# Altium integrated library CRS2512-FX-1004ELF.IntLib: 1 symbol
Pins are listed as number, name and electrical type; pins without a type are passive.

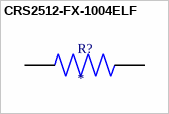
[diagram p0: symbol CRS2512-FX-1004ELF]

## CRS2512-FX-1004ELF
designator R?
MP: CRS2512-FX-1004ELF; Package: None; Price: None; Value: *; Availability: Unavailable
footprint RESC6432X75N
pins: 1, 2